# Altium schematic symbol library ADM660.Schlib: 1 symbol
Pins are listed as number, name and electrical type; pins without a type are passive.

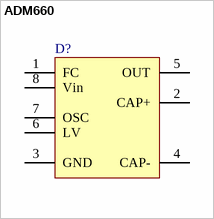
[diagram p0: symbol ADM660]

## ADM660
designator D?
Charge pump inverter/doubler; Package Information: Latest Revision: ver11.0, Feb-2003; Configures: APEX II, APEX 20K, Mercury, ACEX 1K & FLEX Devices; Code - JEDEC: MS-026-ABA; Published: 17-Sep-2003; Datasheet: Latest Revision: ver1.1, Oct-2003; Package Reference: TQFP32; Publisher: Altium Limited
footprint SO-8
footprint SO-8 inverted
pins: 1 FC, 2 CAP+, 3 GND (power), 4 CAP-, 5 OUT (power), 6 LV, 7 OSC, 8 Vin (power)